# Altium integrated library Linear Technology Power Management Energy Harvesting.IntLib: 169 symbols (part 4 of 13)
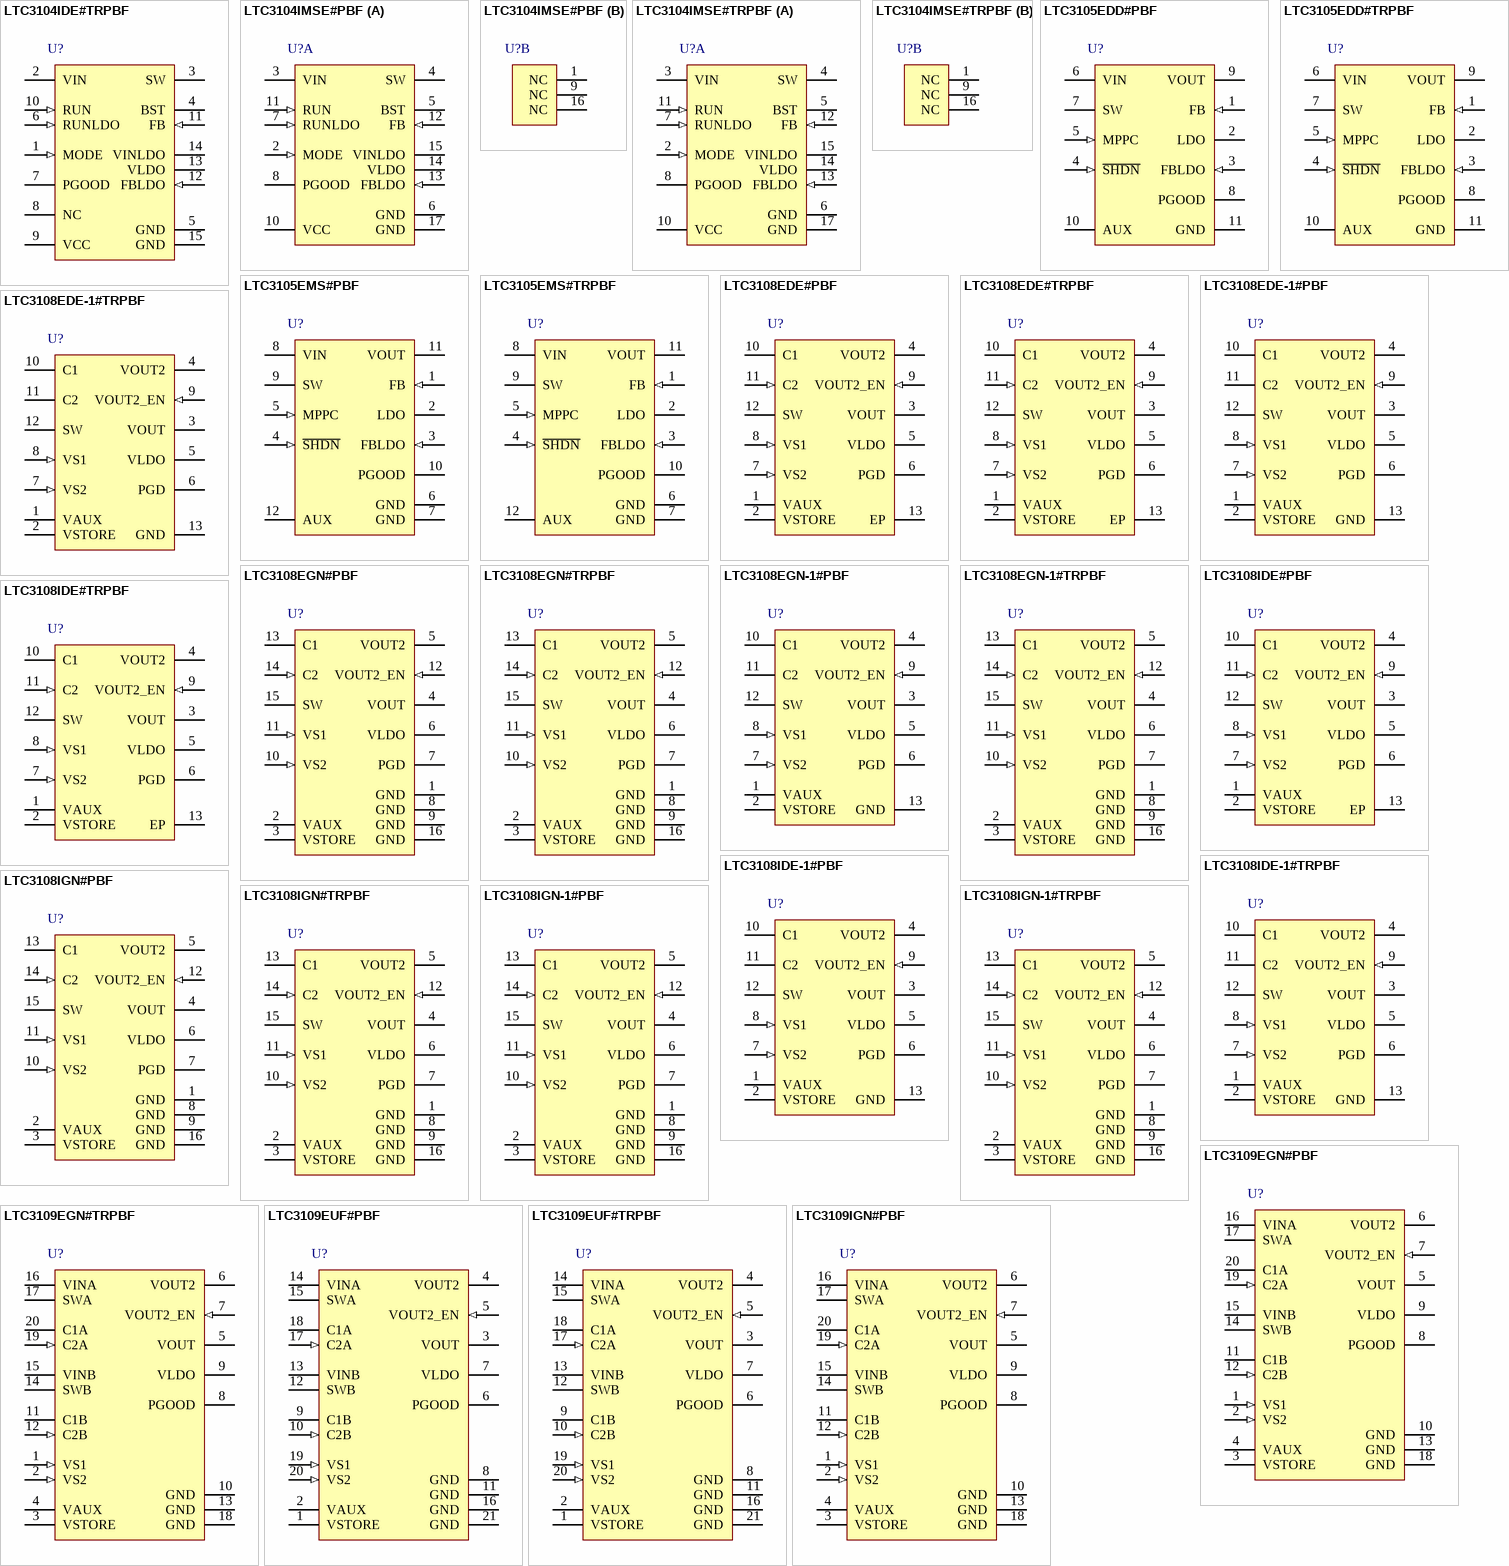
[diagram p8: symbols LTC3104IDE#TRPBF to LTC3109IGN#PBF]

## LTC3108EDE#TRPBF
designator U?
Ultralow Voltage Step-Up Converter and Power Manager, 12-pin SON (DE-12), -40 to 125 degC, Pb-Free, Tape and Reel; Manufacturer: Linear Technology; PartNumber: LTC3108EDE#TRPBF; Energy Source: Thermoelectric; Number of Outputs: 3; Topology: Boost, LDO; Vin Max(V): 0.5; Vin Min(V): 0.02; Vout Max(V): 5; DatasheetVersion: Rev. B; PackageReference: DE-12; PackageDescription: 12-Pin Plastic DFN, Body 4 x 3 mm, Pitch 0.5 mm; Supplier 1: Digi-Key; Supplier Part Number 1: LTC3108EDE#TRPBF-ND; Packing: Tape and Reel; RoHS: TRUE; Mounting Technology: Surface Mount; Code_JEDEC: MO-229; ComponentLink1Description: Manufacturer URL; ComponentLink1URL: http://www.linear.com/; ComponentLink2Description: Datasheet; ComponentLink2URL: http://cds.linear.com/docs/en/datasheet/3108fb.pdf; ComponentLink3Description: Package Specification; ComponentLink3URL: http://cds.linear.com/docs/en/datasheet/3473f.pdf
footprint LT-DE-12-05-08-1708_V (SON, 12-Leads, Body 4x3mm, Pitch 0.5mm, Thermal Pad 3.3x1.7mm)
pins: 1 VAUX (power) "Output of the Internal Rectifier Circuit and VCC for the IC. Bypass VAUX with at least 1uF of capacitance. An active shunt regulator clamps VAUX to 5.25V (typical).", 2 VSTORE (power) "Output for the Storage Capacitor or Battery. A large capacitor may be connected from this pin to GND for powering the system in the event the input voltage is lost. It will be charged up to the maximum VAUX clamp voltage. If (See Datasheet)", 3 VOUT (power) "Main Output of the Converter. The voltage at this pin is regulated to the voltage selected by VS1 and VS2 (see Table 1). Connect this pin to an energy storage capacitor or to a rechargeable battery.", 4 VOUT2 (power) "Switched Output of the Converter. Connect this pin to a switched load. This output is open until VOUT2_EN is driven high, then it is connected to VOUT through a 1.3 ohm P-channel switch. If not used, this pin should be left (See Datasheet)", 5 VLDO (power) "Output of the 2.2V LDO. Connect a 2.2uF or larger ceramic capacitor from this pin to GND. If not used, this pin should be tied to VAUX.", 6 PGD (oc) "Power Good Output. When VOUT is within 7.5% of its programmed value, PGD will be pulled up to VLDO through a 1Mohm resistor. If VOUT drops 9% below its programmed value PGD will go low. This pin can sink up to 100uA.", 7 VS2 (in) "VOUT Select Pin 2. Connect this pin to ground or VAUX to program the output voltage (see Table 1).", 8 VS1 (in) "VOUT Select Pin 1. Connect this pin to ground or VAUX to program the output voltage (see Table 1).", 9 VOUT2_EN (in) "Enable Input for VOUT2. VOUT2 will be enabled when this pin is driven high. There is an internal 5M pull-down resistor on this pin. If not used, this pin can be left open or grounded.", 10 C1 (power) "Input to the Charge Pump and Rectifier Circuit. Connect a capacitor from this pin to the secondary winding of the step-up transformer.", 11 C2 (in) "Input to the N-Channel Gate Drive Circuit. Connect a capacitor from this pin to the secondary winding of the step-up transformer.", 12 SW (power) "Drain of the Internal N-Channel Switch. Connect this pin to the primary winding of the transformer.", 13 EP (power) "Ground. The DFN exposed pad must be soldered to the PCB ground plane. It serves as the ground connection, and as a means of conducting heat away from the die."

## LTC3108EDE-1#PBF
designator U?
Ultralow Voltage Step-Up Converter and Power Manager, 12-pin SON (DE-12), -40 to 125 degC, Pb-Free; Manufacturer: Linear Technology; PartNumber: LTC3108EDE-1#PBF; Energy Source: Thermoelectric; Number of Outputs: 3; Topology: Boost, LDO; Vin Max(V): 0.5; Vin Min(V): 0.02; Vout Max(V): 5; DatasheetVersion: Rev. A; PackageReference: DE-12; PackageDescription: 12-Pin Plastic DFN, Body 4 x 3 mm, Pitch 0.5 mm; Supplier 1: Digi-Key; Supplier Part Number 1: LTC3108EDE-1#PBF-ND; RoHS: TRUE; Mounting Technology: Surface Mount; Code_JEDEC: MO-229; ComponentLink1Description: Manufacturer URL; ComponentLink1URL: http://www.linear.com/; ComponentLink2Description: Datasheet; ComponentLink2URL: http://cds.linear.com/docs/en/datasheet/31081fa.pdf; ComponentLink3Description: Package Specification; ComponentLink3URL: http://cds.linear.com/docs/en/datasheet/3473f.pdf
footprint LT-DE-12-05-08-1708_V (SON, 12-Leads, Body 4x3mm, Pitch 0.5mm, Thermal Pad 3.3x1.7mm)
pins: 1 VAUX (power) "Output of the Internal Rectifier Circuit and VCC for the IC. Bypass VAUX with at least 1uF of capacitance. An active shunt regulator clamps VAUX to 5.25V (typical).", 2 VSTORE (power) "Output for the Storage Capacitor or Battery. A large capacitor may be connected from this pin to GND for powering the system in the event the input voltage is lost. It will be charged up to the maximum VAUX clamp voltage. If (See Datasheet)", 3 VOUT (power) "Main Output of the Converter. The voltage at this pin is regulated to the voltage selected by VS1 and VS2 (see Table 1). Connect this pin to an energy storage capacitor or to a rechargeable battery.", 4 VOUT2 (power) "Switched Output of the Converter. Connect this pin to a switched load. This output is open until VOUT2_EN is driven high, then it is connected to VOUT through a 1.3 ohm P-channel switch. If not used, this pin should be left (See Datasheet)", 5 VLDO (power) "Output of the 2.2V LDO. Connect a 2.2uF or larger ceramic capacitor from this pin to GND. If not used, this pin should be tied to VAUX.", 6 PGD (oc) "Power Good Output. When VOUT is within 7.5% of its programmed value, PGD will be pulled up to VLDO through a 1Mohm resistor. If VOUT drops 9% below its programmed value PGD will go low. This pin can sink up to 100uA.", 7 VS2 (in) "VOUT Select Pin 2. Connect this pin to ground or VAUX to program the output voltage (see Table 1).", 8 VS1 (in) "VOUT Select Pin 1. Connect this pin to ground or VAUX to program the output voltage (see Table 1).", 9 VOUT2_EN (in) "Enable Input for VOUT2. VOUT2 will be enabled when this pin is driven high. There is an internal 5M pull-down resistor on this pin. If not used, this pin can be left open or grounded.", 10 C1 (power) "Input to the Charge Pump and Rectifier Circuit. Connect a capacitor from this pin to the secondary winding of the step-up transformer.", 11 C2 (power) "Input to the Charge Pump and Rectifier Circuit. Connect a capacitor from this pin to the secondary winding of the step-up transformer.", 12 SW (power) "Drain of the Internal N-Channel Switch. Connect this pin to the primary winding of the transformer.", 13 GND (power) "Ground. The DFN exposed pad must be soldered to the PCB ground plane. It serves as the ground connection, and as a means of conducting heat away from the die."

## LTC3108EDE-1#TRPBF
designator U?
Ultralow Voltage Step-Up Converter and Power Manager, 12-pin SON (DE-12), -40 to 125 degC, Pb-Free, Tape and Reel; Manufacturer: Linear Technology; PartNumber: LTC3108EDE-1#TRPBF; Energy Source: Thermoelectric; Number of Outputs: 3; Topology: Boost, LDO; Vin Max(V): 0.5; Vin Min(V): 0.02; Vout Max(V): 5; DatasheetVersion: Rev. A; PackageReference: DE-12; PackageDescription: 12-Pin Plastic DFN, Body 4 x 3 mm, Pitch 0.5 mm; Supplier 1: Digi-Key; Supplier Part Number 1: LTC3108EDE-1#TRPBF-ND; Packing: Tape and Reel; RoHS: TRUE; Mounting Technology: Surface Mount; Code_JEDEC: MO-229; ComponentLink1Description: Manufacturer URL; ComponentLink1URL: http://www.linear.com/; ComponentLink2Description: Datasheet; ComponentLink2URL: http://cds.linear.com/docs/en/datasheet/31081fa.pdf; ComponentLink3Description: Package Specification; ComponentLink3URL: http://cds.linear.com/docs/en/datasheet/3473f.pdf
footprint LT-DE-12-05-08-1708_V (SON, 12-Leads, Body 4x3mm, Pitch 0.5mm, Thermal Pad 3.3x1.7mm)
pins: 1 VAUX (power) "Output of the Internal Rectifier Circuit and VCC for the IC. Bypass VAUX with at least 1uF of capacitance. An active shunt regulator clamps VAUX to 5.25V (typical).", 2 VSTORE (power) "Output for the Storage Capacitor or Battery. A large capacitor may be connected from this pin to GND for powering the system in the event the input voltage is lost. It will be charged up to the maximum VAUX clamp voltage. If (See Datasheet)", 3 VOUT (power) "Main Output of the Converter. The voltage at this pin is regulated to the voltage selected by VS1 and VS2 (see Table 1). Connect this pin to an energy storage capacitor or to a rechargeable battery.", 4 VOUT2 (power) "Switched Output of the Converter. Connect this pin to a switched load. This output is open until VOUT2_EN is driven high, then it is connected to VOUT through a 1.3 ohm P-channel switch. If not used, this pin should be left (See Datasheet)", 5 VLDO (power) "Output of the 2.2V LDO. Connect a 2.2uF or larger ceramic capacitor from this pin to GND. If not used, this pin should be tied to VAUX.", 6 PGD (oc) "Power Good Output. When VOUT is within 7.5% of its programmed value, PGD will be pulled up to VLDO through a 1Mohm resistor. If VOUT drops 9% below its programmed value PGD will go low. This pin can sink up to 100uA.", 7 VS2 (in) "VOUT Select Pin 2. Connect this pin to ground or VAUX to program the output voltage (see Table 1).", 8 VS1 (in) "VOUT Select Pin 1. Connect this pin to ground or VAUX to program the output voltage (see Table 1).", 9 VOUT2_EN (in) "Enable Input for VOUT2. VOUT2 will be enabled when this pin is driven high. There is an internal 5M pull-down resistor on this pin. If not used, this pin can be left open or grounded.", 10 C1 (power) "Input to the Charge Pump and Rectifier Circuit. Connect a capacitor from this pin to the secondary winding of the step-up transformer.", 11 C2 (power) "Input to the Charge Pump and Rectifier Circuit. Connect a capacitor from this pin to the secondary winding of the step-up transformer.", 12 SW (power) "Drain of the Internal N-Channel Switch. Connect this pin to the primary winding of the transformer.", 13 GND (power) "Ground. The DFN exposed pad must be soldered to the PCB ground plane. It serves as the ground connection, and as a means of conducting heat away from the die."

## LTC3108EGN#PBF
designator U?
Ultralow Voltage Step-Up Converter and Power Manager, 16-pin SOP (GN-16), -40 to 125 degC, Pb-Free; Manufacturer: Linear Technology; PartNumber: LTC3108EGN#PBF; Energy Source: Thermoelectric; Number of Outputs: 3; Topology: Boost, LDO; Vin Max(V): 0.5; Vin Min(V): 0.02; Vout Max(V): 5; DatasheetVersion: Rev. B; PackageVersion: Rev. B, 03/2012; PackageReference: GN-16; PackageDescription: 16-Pin Plastic SSOP, Body 4.9 x 3.9 mm, Pitch 0.635 mm; Supplier 1: Digi-Key; Supplier Part Number 1: LTC3108EGN#PBF-ND; Supplier 2: Farnell; Supplier Part Number 2: 1839133; Supplier 3: Newark; Supplier Part Number 3: 67R4278; RoHS: TRUE; Mounting Technology: Surface Mount; ComponentLink1Description: Manufacturer URL; ComponentLink1URL: http://www.linear.com/; ComponentLink2Description: Datasheet; ComponentLink2URL: http://cds.linear.com/docs/en/datasheet/3108fb.pdf; ComponentLink3Description: Package Specification; ComponentLink3URL: http://cds.linear.com/docs/en/packaging/05081641_B_GN16.pdf
footprint LT-GN-16_N (SOP, 16-Leads, Body 5x4mm, Pitch 0.635mm, IPC Medium Density)
footprint LT-GN-16_L (SOP, 16-Leads, Body 5x4mm, Pitch 0.635mm, IPC High Density)
footprint LT-GN-16_M (SOP, 16-Leads, Body 5x4mm, Pitch 0.635mm, IPC Low Density)
pins: 1 GND (power) "Ground", 2 VAUX (power) "Output of the Internal Rectifier Circuit and VCC for the IC. Bypass VAUX with at least 1uF of capacitance. An active shunt regulator clamps VAUX to 5.25V (typical).", 3 VSTORE (power) "Output for the Storage Capacitor or Battery. A large capacitor may be connected from this pin to GND for powering the system in the event the input voltage is lost. It will be charged up to the maximum VAUX clamp voltage. If (See Datasheet)", 4 VOUT (power) "Main Output of the Converter. The voltage at this pin is regulated to the voltage selected by VS1 and VS2 (see Table 1). Connect this pin to an energy storage capacitor or to a rechargeable battery.", 5 VOUT2 (power) "Switched Output of the Converter. Connect this pin to a switched load. This output is open until VOUT2_EN is driven high, then it is connected to VOUT through a 1.3ohm P-channel switch. If not used, this pin should be left (See Datasheet)", 6 VLDO (power) "Output of the 2.2V LDO. Connect a 2.2uF or larger ceramic capacitor from this pin to GND. If not used, this pin should be tied to VAUX.", 7 PGD (oc) "Power Good Output. When VOUT is within 7.5% of its programmed value, PGD will be pulled up to VLDO through a 1Mohm resistor. If VOUT drops 9% below its programmed value PGD will go low. This pin can sink up to 100uA.", 8 GND (power) "Ground", 9 GND (power) "Ground", 10 VS2 (in) "VOUT Select Pin 2. Connect this pin to ground or VAUX to program the output voltage (see Table 1).", 11 VS1 (in) "VOUT Select Pin 1. Connect this pin to ground or VAUX to program the output voltage (see Table 1).", 12 VOUT2_EN (in) "Enable Input for VOUT2. VOUT2 will be enabled when this pin is driven high. There is an internal 5M pull-down resistor on this pin. If not used, this pin can be left open or grounded.", 13 C1 (power) "Input to the Charge Pump and Rectifier Circuit. Connect a capacitor from this pin to the secondary winding of the step-up transformer.", 14 C2 (in) "Input to the N-Channel Gate Drive Circuit. Connect a capacitor from this pin to the secondary winding of the step-up transformer.", 15 SW (power) "Drain of the Internal N-Channel Switch. Connect this pin to the primary winding of the transformer.", 16 GND (power) "Ground"

## LTC3108EGN#TRPBF
designator U?
Ultralow Voltage Step-Up Converter and Power Manager, 16-pin SOP (GN-16), -40 to 125 degC, Pb-Free, Tape and Reel; Manufacturer: Linear Technology; PartNumber: LTC3108EGN#TRPBF; Energy Source: Thermoelectric; Number of Outputs: 3; Topology: Boost, LDO; Vin Max(V): 0.5; Vin Min(V): 0.02; Vout Max(V): 5; DatasheetVersion: Rev. B; PackageVersion: Rev. B, 03/2012; PackageReference: GN-16; PackageDescription: 16-Pin Plastic SSOP, Body 4.9 x 3.9 mm, Pitch 0.635 mm; Supplier 1: Digi-Key; Supplier Part Number 1: LTC3108EGN#TRPBF-ND; Packing: Tape and Reel; RoHS: TRUE; Mounting Technology: Surface Mount; ComponentLink1Description: Manufacturer URL; ComponentLink1URL: http://www.linear.com/; ComponentLink2Description: Datasheet; ComponentLink2URL: http://cds.linear.com/docs/en/datasheet/3108fb.pdf; ComponentLink3Description: Package Specification; ComponentLink3URL: http://cds.linear.com/docs/en/packaging/05081641_B_GN16.pdf
footprint LT-GN-16_N (SOP, 16-Leads, Body 5x4mm, Pitch 0.635mm, IPC Medium Density)
footprint LT-GN-16_L (SOP, 16-Leads, Body 5x4mm, Pitch 0.635mm, IPC High Density)
footprint LT-GN-16_M (SOP, 16-Leads, Body 5x4mm, Pitch 0.635mm, IPC Low Density)
pins: 1 GND (power) "Ground", 2 VAUX (power) "Output of the Internal Rectifier Circuit and VCC for the IC. Bypass VAUX with at least 1uF of capacitance. An active shunt regulator clamps VAUX to 5.25V (typical).", 3 VSTORE (power) "Output for the Storage Capacitor or Battery. A large capacitor may be connected from this pin to GND for powering the system in the event the input voltage is lost. It will be charged up to the maximum VAUX clamp voltage. If (See Datasheet)", 4 VOUT (power) "Main Output of the Converter. The voltage at this pin is regulated to the voltage selected by VS1 and VS2 (see Table 1). Connect this pin to an energy storage capacitor or to a rechargeable battery.", 5 VOUT2 (power) "Switched Output of the Converter. Connect this pin to a switched load. This output is open until VOUT2_EN is driven high, then it is connected to VOUT through a 1.3ohm P-channel switch. If not used, this pin should be left (See Datasheet)", 6 VLDO (power) "Output of the 2.2V LDO. Connect a 2.2uF or larger ceramic capacitor from this pin to GND. If not used, this pin should be tied to VAUX.", 7 PGD (oc) "Power Good Output. When VOUT is within 7.5% of its programmed value, PGD will be pulled up to VLDO through a 1Mohm resistor. If VOUT drops 9% below its programmed value PGD will go low. This pin can sink up to 100uA.", 8 GND (power) "Ground", 9 GND (power) "Ground", 10 VS2 (in) "VOUT Select Pin 2. Connect this pin to ground or VAUX to program the output voltage (see Table 1).", 11 VS1 (in) "VOUT Select Pin 1. Connect this pin to ground or VAUX to program the output voltage (see Table 1).", 12 VOUT2_EN (in) "Enable Input for VOUT2. VOUT2 will be enabled when this pin is driven high. There is an internal 5M pull-down resistor on this pin. If not used, this pin can be left open or grounded.", 13 C1 (power) "Input to the Charge Pump and Rectifier Circuit. Connect a capacitor from this pin to the secondary winding of the step-up transformer.", 14 C2 (in) "Input to the N-Channel Gate Drive Circuit. Connect a capacitor from this pin to the secondary winding of the step-up transformer.", 15 SW (power) "Drain of the Internal N-Channel Switch. Connect this pin to the primary winding of the transformer.", 16 GND (power) "Ground"

## LTC3108EGN-1#PBF
designator U?
Ultralow Voltage Step-Up Converter and Power Manager, 16-pin SOP (GN-16), -40 to 125 degC, Pb-Free; Manufacturer: Linear Technology; PartNumber: LTC3108EGN-1#PBF; Energy Source: Thermoelectric; Number of Outputs: 3; Topology: Boost, LDO; Vin Max(V): 0.5; Vin Min(V): 0.02; Vout Max(V): 5; DatasheetVersion: Rev. A; PackageVersion: Rev. B, 03/2012; PackageReference: GN-16; PackageDescription: 16-Pin Plastic SSOP, Body 4.9 x 3.9 mm, Pitch 0.635 mm; Supplier 1: Digi-Key; Supplier Part Number 1: LTC3108EGN-1#PBF-ND; Supplier 2: Farnell; Supplier Part Number 2: 1839096; Supplier 3: Farnell; Supplier Part Number 3: 2131451; Supplier 4: Newark; Supplier Part Number 4: 13T8313; RoHS: TRUE; Mounting Technology: Surface Mount; ComponentLink1Description: Manufacturer URL; ComponentLink1URL: http://www.linear.com/; ComponentLink2Description: Datasheet; ComponentLink2URL: http://cds.linear.com/docs/en/datasheet/31081fa.pdf; ComponentLink3Description: Package Specification; ComponentLink3URL: http://cds.linear.com/docs/en/packaging/05081641_B_GN16.pdf
footprint LT-GN-16_N (SOP, 16-Leads, Body 5x4mm, Pitch 0.635mm, IPC Medium Density)
footprint LT-GN-16_L (SOP, 16-Leads, Body 5x4mm, Pitch 0.635mm, IPC High Density)
footprint LT-GN-16_M (SOP, 16-Leads, Body 5x4mm, Pitch 0.635mm, IPC Low Density)
pins: 1 VAUX (power) "Output of the Internal Rectifier Circuit and VCC for the IC. Bypass VAUX with at least 1uF of capacitance. An active shunt regulator clamps VAUX to 5.25V (typical).", 2 VSTORE (power) "Output for the Storage Capacitor or Battery. A large capacitor may be connected from this pin to GND for powering the system in the event the input voltage is lost. It will be charged up to the maximum VAUX clamp voltage. If (See Datasheet)", 3 VOUT (power) "Main Output of the Converter. The voltage at this pin is regulated to the voltage selected by VS1 and VS2 (see Table 1). Connect this pin to an energy storage capacitor or to a rechargeable battery.", 4 VOUT2 (power) "Switched Output of the Converter. Connect this pin to a switched load. This output is open until VOUT2_EN is driven high, then it is connected to VOUT through a 1.3 ohm P-channel switch. If not used, this pin should be left (See Datasheet)", 5 VLDO (power) "Output of the 2.2V LDO. Connect a 2.2uF or larger ceramic capacitor from this pin to GND. If not used, this pin should be tied to VAUX.", 6 PGD (oc) "Power Good Output. When VOUT is within 7.5% of its programmed value, PGD will be pulled up to VLDO through a 1Mohm resistor. If VOUT drops 9% below its programmed value PGD will go low. This pin can sink up to 100uA.", 7 VS2 (in) "VOUT Select Pin 2. Connect this pin to ground or VAUX to program the output voltage (see Table 1).", 8 VS1 (in) "VOUT Select Pin 1. Connect this pin to ground or VAUX to program the output voltage (see Table 1).", 9 VOUT2_EN (in) "Enable Input for VOUT2. VOUT2 will be enabled when this pin is driven high. There is an internal 5M pull-down resistor on this pin. If not used, this pin can be left open or grounded.", 10 C1 (power) "Input to the Charge Pump and Rectifier Circuit. Connect a capacitor from this pin to the secondary winding of the step-up transformer.", 11 C2 (power) "Input to the Charge Pump and Rectifier Circuit. Connect a capacitor from this pin to the secondary winding of the step-up transformer.", 12 SW (power) "Drain of the Internal N-Channel Switch. Connect this pin to the primary winding of the transformer.", 13 GND (power) "Ground. The DFN exposed pad must be soldered to the PCB ground plane. It serves as the ground connection, and as a means of conducting heat away from the die."

## LTC3108EGN-1#TRPBF
designator U?
Ultralow Voltage Step-Up Converter and Power Manager, 16-pin SOP (GN-16), -40 to 125 degC, Pb-Free, Tape and Reel; Manufacturer: Linear Technology; PartNumber: LTC3108EGN-1#TRPBF; Energy Source: Thermoelectric; Number of Outputs: 3; Topology: Boost, LDO; Vin Max(V): 0.5; Vin Min(V): 0.02; Vout Max(V): 5; DatasheetVersion: Rev. A; PackageVersion: Rev. B, 03/2012; PackageReference: GN-16; PackageDescription: 16-Pin Plastic SSOP, Body 4.9 x 3.9 mm, Pitch 0.635 mm; Supplier 1: Digi-Key; Supplier Part Number 1: LTC3108EGN-1#TRPBF-ND; Packing: Tape and Reel; RoHS: TRUE; Mounting Technology: Surface Mount; ComponentLink1Description: Manufacturer URL; ComponentLink1URL: http://www.linear.com/; ComponentLink2Description: Datasheet; ComponentLink2URL: http://cds.linear.com/docs/en/datasheet/31081fa.pdf; ComponentLink3Description: Package Specification; ComponentLink3URL: http://cds.linear.com/docs/en/packaging/05081641_B_GN16.pdf
footprint LT-GN-16_N (SOP, 16-Leads, Body 5x4mm, Pitch 0.635mm, IPC Medium Density)
footprint LT-GN-16_L (SOP, 16-Leads, Body 5x4mm, Pitch 0.635mm, IPC High Density)
footprint LT-GN-16_M (SOP, 16-Leads, Body 5x4mm, Pitch 0.635mm, IPC Low Density)
pins: 1 GND (power) "Ground", 2 VAUX (power) "Output of the Internal Rectifier Circuit and VCC for the IC. Bypass VAUX with at least 1uF of capacitance. An active shunt regulator clamps VAUX to 5.25V (typical).", 3 VSTORE (power) "Output for the Storage Capacitor or Battery. A large capacitor may be connected from this pin to GND for powering the system in the event the input voltage is lost. It will be charged up to the maximum VAUX clamp voltage. If (See Datasheet)", 4 VOUT (power) "Main Output of the Converter. The voltage at this pin is regulated to the voltage selected by VS1 and VS2 (see Table 1). Connect this pin to an energy storage capacitor or to a rechargeable battery.", 5 VOUT2 (power) "Switched Output of the Converter. Connect this pin to a switched load. This output is open until VOUT2_EN is driven high, then it is connected to VOUT through a 1.3ohm P-channel switch. If not used, this pin should be left (See Datasheet)", 6 VLDO (power) "Output of the 2.2V LDO. Connect a 2.2uF or larger ceramic capacitor from this pin to GND. If not used, this pin should be tied to VAUX.", 7 PGD (oc) "Power Good Output. When VOUT is within 7.5% of its programmed value, PGD will be pulled up to VLDO through a 1Mohm resistor. If VOUT drops 9% below its programmed value PGD will go low. This pin can sink up to 100uA.", 8 GND (power) "Ground", 9 GND (power) "Ground", 10 VS2 (in) "VOUT Select Pin 2. Connect this pin to ground or VAUX to program the output voltage (see Table 1).", 11 VS1 (in) "VOUT Select Pin 1. Connect this pin to ground or VAUX to program the output voltage (see Table 1).", 12 VOUT2_EN (in) "Enable Input for VOUT2. VOUT2 will be enabled when this pin is driven high. There is an internal 5M pull-down resistor on this pin. If not used, this pin can be left open or grounded.", 13 C1 (power) "Input to the Charge Pump and Rectifier Circuit. Connect a capacitor from this pin to the secondary winding of the step-up transformer.", 14 C2 (in) "Input to the N-Channel Gate Drive Circuit. Connect a capacitor from this pin to the secondary winding of the step-up transformer.", 15 SW (power) "Drain of the Internal N-Channel Switch. Connect this pin to the primary winding of the transformer.", 16 GND (power) "Ground"

## LTC3108IDE#PBF
designator U?
Ultralow Voltage Step-Up Converter and Power Manager, 12-pin SON (DE-12), -40 to 125 degC, Pb-Free; Manufacturer: Linear Technology; PartNumber: LTC3108IDE#PBF; Energy Source: Thermoelectric; Number of Outputs: 3; Topology: Boost, LDO; Vin Max(V): 0.5; Vin Min(V): 0.02; Vout Max(V): 5; DatasheetVersion: Rev. B; PackageReference: DE-12; PackageDescription: 12-Pin Plastic DFN, Body 4 x 3 mm, Pitch 0.5 mm; Supplier 1: Digi-Key; Supplier Part Number 1: LTC3108IDE#PBF-ND; Supplier 2: Farnell; Supplier Part Number 2: 1839134; Supplier 3: Newark; Supplier Part Number 3: 67R4279; RoHS: TRUE; Mounting Technology: Surface Mount; Code_JEDEC: MO-229; ComponentLink1Description: Manufacturer URL; ComponentLink1URL: http://www.linear.com/; ComponentLink2Description: Datasheet; ComponentLink2URL: http://cds.linear.com/docs/en/datasheet/3108fb.pdf; ComponentLink3Description: Package Specification; ComponentLink3URL: http://cds.linear.com/docs/en/datasheet/3473f.pdf
footprint LT-DE-12-05-08-1708_V (SON, 12-Leads, Body 4x3mm, Pitch 0.5mm, Thermal Pad 3.3x1.7mm)
pins: 1 VAUX (power) "Output of the Internal Rectifier Circuit and VCC for the IC. Bypass VAUX with at least 1uF of capacitance. An active shunt regulator clamps VAUX to 5.25V (typical).", 2 VSTORE (power) "Output for the Storage Capacitor or Battery. A large capacitor may be connected from this pin to GND for powering the system in the event the input voltage is lost. It will be charged up to the maximum VAUX clamp voltage. If (See Datasheet)", 3 VOUT (power) "Main Output of the Converter. The voltage at this pin is regulated to the voltage selected by VS1 and VS2 (see Table 1). Connect this pin to an energy storage capacitor or to a rechargeable battery.", 4 VOUT2 (power) "Switched Output of the Converter. Connect this pin to a switched load. This output is open until VOUT2_EN is driven high, then it is connected to VOUT through a 1.3 ohm P-channel switch. If not used, this pin should be left (See Datasheet)", 5 VLDO (power) "Output of the 2.2V LDO. Connect a 2.2uF or larger ceramic capacitor from this pin to GND. If not used, this pin should be tied to VAUX.", 6 PGD (oc) "Power Good Output. When VOUT is within 7.5% of its programmed value, PGD will be pulled up to VLDO through a 1Mohm resistor. If VOUT drops 9% below its programmed value PGD will go low. This pin can sink up to 100uA.", 7 VS2 (in) "VOUT Select Pin 2. Connect this pin to ground or VAUX to program the output voltage (see Table 1).", 8 VS1 (in) "VOUT Select Pin 1. Connect this pin to ground or VAUX to program the output voltage (see Table 1).", 9 VOUT2_EN (in) "Enable Input for VOUT2. VOUT2 will be enabled when this pin is driven high. There is an internal 5M pull-down resistor on this pin. If not used, this pin can be left open or grounded.", 10 C1 (power) "Input to the Charge Pump and Rectifier Circuit. Connect a capacitor from this pin to the secondary winding of the step-up transformer.", 11 C2 (in) "Input to the N-Channel Gate Drive Circuit. Connect a capacitor from this pin to the secondary winding of the step-up transformer.", 12 SW (power) "Drain of the Internal N-Channel Switch. Connect this pin to the primary winding of the transformer.", 13 EP (power) "Ground. The DFN exposed pad must be soldered to the PCB ground plane. It serves as the ground connection, and as a means of conducting heat away from the die."

## LTC3108IDE#TRPBF
designator U?
Ultralow Voltage Step-Up Converter and Power Manager, 12-pin SON (DE-12), -40 to 125 degC, Pb-Free, Tape and Reel; Manufacturer: Linear Technology; PartNumber: LTC3108IDE#TRPBF; Energy Source: Thermoelectric; Number of Outputs: 3; Topology: Boost, LDO; Vin Max(V): 0.5; Vin Min(V): 0.02; Vout Max(V): 5; DatasheetVersion: Rev. B; PackageReference: DE-12; PackageDescription: 12-Pin Plastic DFN, Body 4 x 3 mm, Pitch 0.5 mm; Supplier 1: Digi-Key; Supplier Part Number 1: LTC3108IDE#TRPBF-ND; Packing: Tape and Reel; RoHS: TRUE; Mounting Technology: Surface Mount; Code_JEDEC: MO-229; ComponentLink1Description: Manufacturer URL; ComponentLink1URL: http://www.linear.com/; ComponentLink2Description: Datasheet; ComponentLink2URL: http://cds.linear.com/docs/en/datasheet/3108fb.pdf; ComponentLink3Description: Package Specification; ComponentLink3URL: http://cds.linear.com/docs/en/datasheet/3473f.pdf
footprint LT-DE-12-05-08-1708_V (SON, 12-Leads, Body 4x3mm, Pitch 0.5mm, Thermal Pad 3.3x1.7mm)
pins: 1 VAUX (power) "Output of the Internal Rectifier Circuit and VCC for the IC. Bypass VAUX with at least 1uF of capacitance. An active shunt regulator clamps VAUX to 5.25V (typical).", 2 VSTORE (power) "Output for the Storage Capacitor or Battery. A large capacitor may be connected from this pin to GND for powering the system in the event the input voltage is lost. It will be charged up to the maximum VAUX clamp voltage. If (See Datasheet)", 3 VOUT (power) "Main Output of the Converter. The voltage at this pin is regulated to the voltage selected by VS1 and VS2 (see Table 1). Connect this pin to an energy storage capacitor or to a rechargeable battery.", 4 VOUT2 (power) "Switched Output of the Converter. Connect this pin to a switched load. This output is open until VOUT2_EN is driven high, then it is connected to VOUT through a 1.3 ohm P-channel switch. If not used, this pin should be left (See Datasheet)", 5 VLDO (power) "Output of the 2.2V LDO. Connect a 2.2uF or larger ceramic capacitor from this pin to GND. If not used, this pin should be tied to VAUX.", 6 PGD (oc) "Power Good Output. When VOUT is within 7.5% of its programmed value, PGD will be pulled up to VLDO through a 1Mohm resistor. If VOUT drops 9% below its programmed value PGD will go low. This pin can sink up to 100uA.", 7 VS2 (in) "VOUT Select Pin 2. Connect this pin to ground or VAUX to program the output voltage (see Table 1).", 8 VS1 (in) "VOUT Select Pin 1. Connect this pin to ground or VAUX to program the output voltage (see Table 1).", 9 VOUT2_EN (in) "Enable Input for VOUT2. VOUT2 will be enabled when this pin is driven high. There is an internal 5M pull-down resistor on this pin. If not used, this pin can be left open or grounded.", 10 C1 (power) "Input to the Charge Pump and Rectifier Circuit. Connect a capacitor from this pin to the secondary winding of the step-up transformer.", 11 C2 (in) "Input to the N-Channel Gate Drive Circuit. Connect a capacitor from this pin to the secondary winding of the step-up transformer.", 12 SW (power) "Drain of the Internal N-Channel Switch. Connect this pin to the primary winding of the transformer.", 13 EP (power) "Ground. The DFN exposed pad must be soldered to the PCB ground plane. It serves as the ground connection, and as a means of conducting heat away from the die."

## LTC3108IDE-1#PBF
designator U?
Ultralow Voltage Step-Up Converter and Power Manager, 12-pin SON (DE-12), -40 to 125 degC, Pb-Free; Manufacturer: Linear Technology; PartNumber: LTC3108IDE-1#PBF; Energy Source: Thermoelectric; Number of Outputs: 3; Topology: Boost, LDO; Vin Max(V): 0.5; Vin Min(V): 0.02; Vout Max(V): 5; DatasheetVersion: Rev. A; PackageReference: DE-12; PackageDescription: 12-Pin Plastic DFN, Body 4 x 3 mm, Pitch 0.5 mm; Supplier 1: Digi-Key; Supplier Part Number 1: LTC3108IDE-1#PBF-ND; Supplier 2: Farnell; Supplier Part Number 2: 2145088; Supplier 3: Newark; Supplier Part Number 3: 13T8316; RoHS: TRUE; Mounting Technology: Surface Mount; Code_JEDEC: MO-229; ComponentLink1Description: Manufacturer URL; ComponentLink1URL: http://www.linear.com/; ComponentLink2Description: Datasheet; ComponentLink2URL: http://cds.linear.com/docs/en/datasheet/31081fa.pdf; ComponentLink3Description: Package Specification; ComponentLink3URL: http://cds.linear.com/docs/en/datasheet/3473f.pdf
footprint LT-DE-12-05-08-1708_V (SON, 12-Leads, Body 4x3mm, Pitch 0.5mm, Thermal Pad 3.3x1.7mm)
pins: 1 VAUX (power) "Output of the Internal Rectifier Circuit and VCC for the IC. Bypass VAUX with at least 1uF of capacitance. An active shunt regulator clamps VAUX to 5.25V (typical).", 2 VSTORE (power) "Output for the Storage Capacitor or Battery. A large capacitor may be connected from this pin to GND for powering the system in the event the input voltage is lost. It will be charged up to the maximum VAUX clamp voltage. If (See Datasheet)", 3 VOUT (power) "Main Output of the Converter. The voltage at this pin is regulated to the voltage selected by VS1 and VS2 (see Table 1). Connect this pin to an energy storage capacitor or to a rechargeable battery.", 4 VOUT2 (power) "Switched Output of the Converter. Connect this pin to a switched load. This output is open until VOUT2_EN is driven high, then it is connected to VOUT through a 1.3 ohm P-channel switch. If not used, this pin should be left (See Datasheet)", 5 VLDO (power) "Output of the 2.2V LDO. Connect a 2.2uF or larger ceramic capacitor from this pin to GND. If not used, this pin should be tied to VAUX.", 6 PGD (oc) "Power Good Output. When VOUT is within 7.5% of its programmed value, PGD will be pulled up to VLDO through a 1Mohm resistor. If VOUT drops 9% below its programmed value PGD will go low. This pin can sink up to 100uA.", 7 VS2 (in) "VOUT Select Pin 2. Connect this pin to ground or VAUX to program the output voltage (see Table 1).", 8 VS1 (in) "VOUT Select Pin 1. Connect this pin to ground or VAUX to program the output voltage (see Table 1).", 9 VOUT2_EN (in) "Enable Input for VOUT2. VOUT2 will be enabled when this pin is driven high. There is an internal 5M pull-down resistor on this pin. If not used, this pin can be left open or grounded.", 10 C1 (power) "Input to the Charge Pump and Rectifier Circuit. Connect a capacitor from this pin to the secondary winding of the step-up transformer.", 11 C2 (power) "Input to the Charge Pump and Rectifier Circuit. Connect a capacitor from this pin to the secondary winding of the step-up transformer.", 12 SW (power) "Drain of the Internal N-Channel Switch. Connect this pin to the primary winding of the transformer.", 13 GND (power) "Ground. The DFN exposed pad must be soldered to the PCB ground plane. It serves as the ground connection, and as a means of conducting heat away from the die."

## LTC3108IDE-1#TRPBF
designator U?
Ultralow Voltage Step-Up Converter and Power Manager, 12-pin SON (DE-12), -40 to 125 degC, Pb-Free, Tape and Reel; Manufacturer: Linear Technology; PartNumber: LTC3108IDE-1#TRPBF; Energy Source: Thermoelectric; Number of Outputs: 3; Topology: Boost, LDO; Vin Max(V): 0.5; Vin Min(V): 0.02; Vout Max(V): 5; DatasheetVersion: Rev. A; PackageReference: DE-12; PackageDescription: 12-Pin Plastic DFN, Body 4 x 3 mm, Pitch 0.5 mm; Supplier 1: Digi-Key; Supplier Part Number 1: LTC3108IDE-1#TRPBF-ND; Packing: Tape and Reel; RoHS: TRUE; Mounting Technology: Surface Mount; Code_JEDEC: MO-229; ComponentLink1Description: Manufacturer URL; ComponentLink1URL: http://www.linear.com/; ComponentLink2Description: Datasheet; ComponentLink2URL: http://cds.linear.com/docs/en/datasheet/31081fa.pdf; ComponentLink3Description: Package Specification; ComponentLink3URL: http://cds.linear.com/docs/en/datasheet/3473f.pdf
footprint LT-DE-12-05-08-1708_V (SON, 12-Leads, Body 4x3mm, Pitch 0.5mm, Thermal Pad 3.3x1.7mm)
pins: 1 VAUX (power) "Output of the Internal Rectifier Circuit and VCC for the IC. Bypass VAUX with at least 1uF of capacitance. An active shunt regulator clamps VAUX to 5.25V (typical).", 2 VSTORE (power) "Output for the Storage Capacitor or Battery. A large capacitor may be connected from this pin to GND for powering the system in the event the input voltage is lost. It will be charged up to the maximum VAUX clamp voltage. If (See Datasheet)", 3 VOUT (power) "Main Output of the Converter. The voltage at this pin is regulated to the voltage selected by VS1 and VS2 (see Table 1). Connect this pin to an energy storage capacitor or to a rechargeable battery.", 4 VOUT2 (power) "Switched Output of the Converter. Connect this pin to a switched load. This output is open until VOUT2_EN is driven high, then it is connected to VOUT through a 1.3 ohm P-channel switch. If not used, this pin should be left (See Datasheet)", 5 VLDO (power) "Output of the 2.2V LDO. Connect a 2.2uF or larger ceramic capacitor from this pin to GND. If not used, this pin should be tied to VAUX.", 6 PGD (oc) "Power Good Output. When VOUT is within 7.5% of its programmed value, PGD will be pulled up to VLDO through a 1Mohm resistor. If VOUT drops 9% below its programmed value PGD will go low. This pin can sink up to 100uA.", 7 VS2 (in) "VOUT Select Pin 2. Connect this pin to ground or VAUX to program the output voltage (see Table 1).", 8 VS1 (in) "VOUT Select Pin 1. Connect this pin to ground or VAUX to program the output voltage (see Table 1).", 9 VOUT2_EN (in) "Enable Input for VOUT2. VOUT2 will be enabled when this pin is driven high. There is an internal 5M pull-down resistor on this pin. If not used, this pin can be left open or grounded.", 10 C1 (power) "Input to the Charge Pump and Rectifier Circuit. Connect a capacitor from this pin to the secondary winding of the step-up transformer.", 11 C2 (power) "Input to the Charge Pump and Rectifier Circuit. Connect a capacitor from this pin to the secondary winding of the step-up transformer.", 12 SW (power) "Drain of the Internal N-Channel Switch. Connect this pin to the primary winding of the transformer.", 13 GND (power) "Ground. The DFN exposed pad must be soldered to the PCB ground plane. It serves as the ground connection, and as a means of conducting heat away from the die."

## LTC3108IGN#PBF
designator U?
Ultralow Voltage Step-Up Converter and Power Manager, 16-pin SOP (GN-16), -40 to 125 degC, Pb-Free; Manufacturer: Linear Technology; PartNumber: LTC3108IGN#PBF; Energy Source: Thermoelectric; Number of Outputs: 3; Topology: Boost, LDO; Vin Max(V): 0.5; Vin Min(V): 0.02; Vout Max(V): 5; DatasheetVersion: Rev. B; PackageVersion: Rev. B, 03/2012; PackageReference: GN-16; PackageDescription: 16-Pin Plastic SSOP, Body 4.9 x 3.9 mm, Pitch 0.635 mm; Supplier 1: Digi-Key; Supplier Part Number 1: LTC3108IGN#PBF-ND; Supplier 2: Farnell; Supplier Part Number 2: 1799834; Supplier 3: Newark; Supplier Part Number 3: 67R4280; RoHS: TRUE; Mounting Technology: Surface Mount; ComponentLink1Description: Manufacturer URL; ComponentLink1URL: http://www.linear.com/; ComponentLink2Description: Datasheet; ComponentLink2URL: http://cds.linear.com/docs/en/datasheet/3108fb.pdf; ComponentLink3Description: Package Specification; ComponentLink3URL: http://cds.linear.com/docs/en/packaging/05081641_B_GN16.pdf
footprint LT-GN-16_N (SOP, 16-Leads, Body 5x4mm, Pitch 0.635mm, IPC Medium Density)
footprint LT-GN-16_L (SOP, 16-Leads, Body 5x4mm, Pitch 0.635mm, IPC High Density)
footprint LT-GN-16_M (SOP, 16-Leads, Body 5x4mm, Pitch 0.635mm, IPC Low Density)
pins: 1 GND (power) "Ground", 2 VAUX (power) "Output of the Internal Rectifier Circuit and VCC for the IC. Bypass VAUX with at least 1uF of capacitance. An active shunt regulator clamps VAUX to 5.25V (typical).", 3 VSTORE (power) "Output for the Storage Capacitor or Battery. A large capacitor may be connected from this pin to GND for powering the system in the event the input voltage is lost. It will be charged up to the maximum VAUX clamp voltage. If (See Datasheet)", 4 VOUT (power) "Main Output of the Converter. The voltage at this pin is regulated to the voltage selected by VS1 and VS2 (see Table 1). Connect this pin to an energy storage capacitor or to a rechargeable battery.", 5 VOUT2 (power) "Switched Output of the Converter. Connect this pin to a switched load. This output is open until VOUT2_EN is driven high, then it is connected to VOUT through a 1.3ohm P-channel switch. If not used, this pin should be left (See Datasheet)", 6 VLDO (power) "Output of the 2.2V LDO. Connect a 2.2uF or larger ceramic capacitor from this pin to GND. If not used, this pin should be tied to VAUX.", 7 PGD (oc) "Power Good Output. When VOUT is within 7.5% of its programmed value, PGD will be pulled up to VLDO through a 1Mohm resistor. If VOUT drops 9% below its programmed value PGD will go low. This pin can sink up to 100uA.", 8 GND (power) "Ground", 9 GND (power) "Ground", 10 VS2 (in) "VOUT Select Pin 2. Connect this pin to ground or VAUX to program the output voltage (see Table 1).", 11 VS1 (in) "VOUT Select Pin 1. Connect this pin to ground or VAUX to program the output voltage (see Table 1).", 12 VOUT2_EN (in) "Enable Input for VOUT2. VOUT2 will be enabled when this pin is driven high. There is an internal 5M pull-down resistor on this pin. If not used, this pin can be left open or grounded.", 13 C1 (power) "Input to the Charge Pump and Rectifier Circuit. Connect a capacitor from this pin to the secondary winding of the step-up transformer.", 14 C2 (in) "Input to the N-Channel Gate Drive Circuit. Connect a capacitor from this pin to the secondary winding of the step-up transformer.", 15 SW (power) "Drain of the Internal N-Channel Switch. Connect this pin to the primary winding of the transformer.", 16 GND (power) "Ground"

## LTC3108IGN#TRPBF
designator U?
Ultralow Voltage Step-Up Converter and Power Manager, 16-pin SOP (GN-16), -40 to 125 degC, Pb-Free, Tape and Reel; Manufacturer: Linear Technology; PartNumber: LTC3108IGN#TRPBF; Energy Source: Thermoelectric; Number of Outputs: 3; Topology: Boost, LDO; Vin Max(V): 0.5; Vin Min(V): 0.02; Vout Max(V): 5; DatasheetVersion: Rev. B; PackageVersion: Rev. B, 03/2012; PackageReference: GN-16; PackageDescription: 16-Pin Plastic SSOP, Body 4.9 x 3.9 mm, Pitch 0.635 mm; Supplier 1: Digi-Key; Supplier Part Number 1: LTC3108IGN#TRPBF-ND; Packing: Tape and Reel; RoHS: TRUE; Mounting Technology: Surface Mount; ComponentLink1Description: Manufacturer URL; ComponentLink1URL: http://www.linear.com/; ComponentLink2Description: Datasheet; ComponentLink2URL: http://cds.linear.com/docs/en/datasheet/3108fb.pdf; ComponentLink3Description: Package Specification; ComponentLink3URL: http://cds.linear.com/docs/en/packaging/05081641_B_GN16.pdf
footprint LT-GN-16_N (SOP, 16-Leads, Body 5x4mm, Pitch 0.635mm, IPC Medium Density)
footprint LT-GN-16_L (SOP, 16-Leads, Body 5x4mm, Pitch 0.635mm, IPC High Density)
footprint LT-GN-16_M (SOP, 16-Leads, Body 5x4mm, Pitch 0.635mm, IPC Low Density)
pins: 1 GND (power) "Ground", 2 VAUX (power) "Output of the Internal Rectifier Circuit and VCC for the IC. Bypass VAUX with at least 1uF of capacitance. An active shunt regulator clamps VAUX to 5.25V (typical).", 3 VSTORE (power) "Output for the Storage Capacitor or Battery. A large capacitor may be connected from this pin to GND for powering the system in the event the input voltage is lost. It will be charged up to the maximum VAUX clamp voltage. If (See Datasheet)", 4 VOUT (power) "Main Output of the Converter. The voltage at this pin is regulated to the voltage selected by VS1 and VS2 (see Table 1). Connect this pin to an energy storage capacitor or to a rechargeable battery.", 5 VOUT2 (power) "Switched Output of the Converter. Connect this pin to a switched load. This output is open until VOUT2_EN is driven high, then it is connected to VOUT through a 1.3ohm P-channel switch. If not used, this pin should be left (See Datasheet)", 6 VLDO (power) "Output of the 2.2V LDO. Connect a 2.2uF or larger ceramic capacitor from this pin to GND. If not used, this pin should be tied to VAUX.", 7 PGD (oc) "Power Good Output. When VOUT is within 7.5% of its programmed value, PGD will be pulled up to VLDO through a 1Mohm resistor. If VOUT drops 9% below its programmed value PGD will go low. This pin can sink up to 100uA.", 8 GND (power) "Ground", 9 GND (power) "Ground", 10 VS2 (in) "VOUT Select Pin 2. Connect this pin to ground or VAUX to program the output voltage (see Table 1).", 11 VS1 (in) "VOUT Select Pin 1. Connect this pin to ground or VAUX to program the output voltage (see Table 1).", 12 VOUT2_EN (in) "Enable Input for VOUT2. VOUT2 will be enabled when this pin is driven high. There is an internal 5M pull-down resistor on this pin. If not used, this pin can be left open or grounded.", 13 C1 (power) "Input to the Charge Pump and Rectifier Circuit. Connect a capacitor from this pin to the secondary winding of the step-up transformer.", 14 C2 (in) "Input to the N-Channel Gate Drive Circuit. Connect a capacitor from this pin to the secondary winding of the step-up transformer.", 15 SW (power) "Drain of the Internal N-Channel Switch. Connect this pin to the primary winding of the transformer.", 16 GND (power) "Ground"

## LTC3108IGN-1#PBF
designator U?
Ultralow Voltage Step-Up Converter and Power Manager, 16-pin SOP (GN-16), -40 to 125 degC, Pb-Free; Manufacturer: Linear Technology; PartNumber: LTC3108IGN-1#PBF; Energy Source: Thermoelectric; Number of Outputs: 3; Topology: Boost, LDO; Vin Max(V): 0.5; Vin Min(V): 0.02; Vout Max(V): 5; DatasheetVersion: Rev. A; PackageVersion: Rev. B, 03/2012; PackageReference: GN-16; PackageDescription: 16-Pin Plastic SSOP, Body 4.9 x 3.9 mm, Pitch 0.635 mm; Supplier 1: Digi-Key; Supplier Part Number 1: LTC3108IGN-1#PBF-ND; Supplier 2: Farnell; Supplier Part Number 2: 2145089; RoHS: TRUE; Mounting Technology: Surface Mount; ComponentLink1Description: Manufacturer URL; ComponentLink1URL: http://www.linear.com/; ComponentLink2Description: Datasheet; ComponentLink2URL: http://cds.linear.com/docs/en/datasheet/31081fa.pdf; ComponentLink3Description: Package Specification; ComponentLink3URL: http://cds.linear.com/docs/en/packaging/05081641_B_GN16.pdf
footprint LT-GN-16_N (SOP, 16-Leads, Body 5x4mm, Pitch 0.635mm, IPC Medium Density)
footprint LT-GN-16_L (SOP, 16-Leads, Body 5x4mm, Pitch 0.635mm, IPC High Density)
footprint LT-GN-16_M (SOP, 16-Leads, Body 5x4mm, Pitch 0.635mm, IPC Low Density)
pins: 1 GND (power) "Ground", 2 VAUX (power) "Output of the Internal Rectifier Circuit and VCC for the IC. Bypass VAUX with at least 1uF of capacitance. An active shunt regulator clamps VAUX to 5.25V (typical).", 3 VSTORE (power) "Output for the Storage Capacitor or Battery. A large capacitor may be connected from this pin to GND for powering the system in the event the input voltage is lost. It will be charged up to the maximum VAUX clamp voltage. If (See Datasheet)", 4 VOUT (power) "Main Output of the Converter. The voltage at this pin is regulated to the voltage selected by VS1 and VS2 (see Table 1). Connect this pin to an energy storage capacitor or to a rechargeable battery.", 5 VOUT2 (power) "Switched Output of the Converter. Connect this pin to a switched load. This output is open until VOUT2_EN is driven high, then it is connected to VOUT through a 1.3ohm P-channel switch. If not used, this pin should be left (See Datasheet)", 6 VLDO (power) "Output of the 2.2V LDO. Connect a 2.2uF or larger ceramic capacitor from this pin to GND. If not used, this pin should be tied to VAUX.", 7 PGD (oc) "Power Good Output. When VOUT is within 7.5% of its programmed value, PGD will be pulled up to VLDO through a 1Mohm resistor. If VOUT drops 9% below its programmed value PGD will go low. This pin can sink up to 100uA.", 8 GND (power) "Ground", 9 GND (power) "Ground", 10 VS2 (in) "VOUT Select Pin 2. Connect this pin to ground or VAUX to program the output voltage (see Table 1).", 11 VS1 (in) "VOUT Select Pin 1. Connect this pin to ground or VAUX to program the output voltage (see Table 1).", 12 VOUT2_EN (in) "Enable Input for VOUT2. VOUT2 will be enabled when this pin is driven high. There is an internal 5M pull-down resistor on this pin. If not used, this pin can be left open or grounded.", 13 C1 (power) "Input to the Charge Pump and Rectifier Circuit. Connect a capacitor from this pin to the secondary winding of the step-up transformer.", 14 C2 (in) "Input to the N-Channel Gate Drive Circuit. Connect a capacitor from this pin to the secondary winding of the step-up transformer.", 15 SW (power) "Drain of the Internal N-Channel Switch. Connect this pin to the primary winding of the transformer.", 16 GND (power) "Ground"